# Altium footprint library MOLEX_0733910070.PcbLib: 1 footprints
Each footprint in its own frame and in the unit in brackets; x right, y up, seen from the top. Pads: shape width x height; smd on the part's side, far side on the other; paste and mask are expansions set on the pad; w line width, h text height; cw(c..) or ccw(c..) is an arc to the next point about the centre after c.
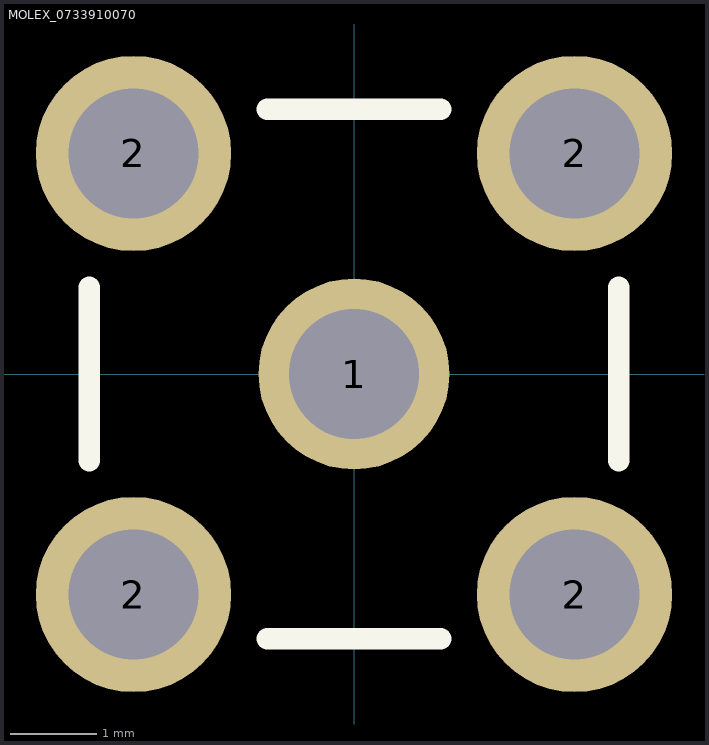
[diagram p0: the footprint, top view; thin cyan lines are the x and y axes]

## MOLEX_0733910070 [mm]
pads (5):
  round 2.2 hole 1.5 mask+0.05: 1(0,0)
  round 2.25 hole 1.5 mask+0.05: 2(-2.54,-2.54) 2(-2.54,2.54) 2(2.54,-2.54) 2(2.54,2.54)
Top Overlay:
  lines w0.25: -3.05,-1 -3.05,1 ; -1,-3.05 1,-3.05 ; -1,3.05 1,3.05 ; 3.05,-1 3.05,1
3D body "733910070.stp": height 9.98, standoff -3.52, extent -3.12,-3.113 3.12,3.128